# Altium schematic symbol library TPS61032.SchLib: 1 symbol
Pins are listed as number, name and electrical type; pins without a type are passive.

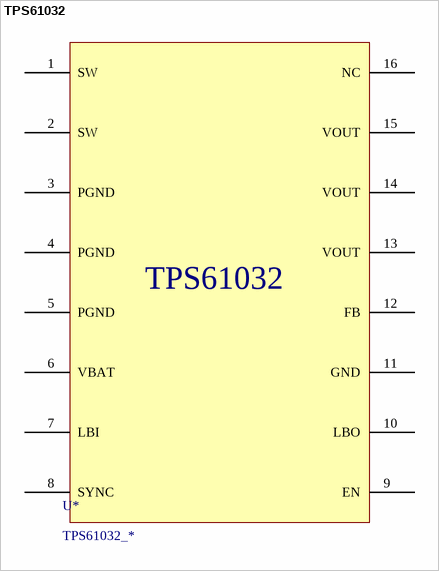
[diagram p0: symbol TPS61032]

## TPS61032
designator U*, comment TPS61032_*
Manufacturer: TI; MF_PN: TPS61032PWPR
footprint HTSSOP16 (0.65mm Pitch)
pins: 1 SW, 2 SW, 3 PGND, 4 PGND, 5 PGND, 6 VBAT, 7 LBI, 8 SYNC, 9 EN, 10 LBO, 11 GND, 12 FB, 13 VOUT, 14 VOUT, 15 VOUT, 16 NC